# Altium schematic symbol library POGO_Pad.Schlib: 1 symbol
Pins are listed as number, name and electrical type; pins without a type are passive.

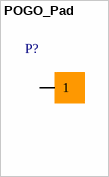
[diagram p0: symbol POGO_Pad]

## POGO_Pad
designator P?  (mechanical)
pins: 1